# Altium schematic symbol library USBLC6-2SC6.SchLib: 1 symbol
Pins are listed as number, name and electrical type; pins without a type are passive.

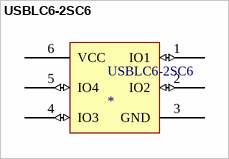
[diagram p0: symbol USBLC6-2SC6]

## USBLC6-2SC6
designator USBLC6-2SC6
footprint SOT23-6_L (SOT23, 6-Leads, Body 2.9x1.6mm, Pitch 0.95mm, Lead Span 2.7mm, IPC High Density)
pins: 1 IO1 (io), 2 IO2 (io), 3 GND (power), 4 IO3 (io), 5 IO4 (io), 6 VCC (power)